# EAGLE library part 2092-1362 (library con_wago_5.0 mm)
Serie 2092, Federleiste eCOM mit abgewinkelten Lötstiften mit Griffplatte / Series 2092, eCOM pluggable PCB connector with angled solder pins with gripping plate Polzahl / Pole No.: 12 Rastermaß / Pitch: 5 mm Bemessungsspannung / Rated Voltage: 320 V Nennstrom / Nominal Current: 16 A Leiterquerschnitt / Conductor Size: 0.2 - 2.5 mm² Anschlusstechnik / Connection Technology: CAGE CLAMP® S Lötstiftlänge: / Solder Pin Length: 3.6 mm Farbe / Color: lichtgrau / light gray Stand: 01.01.2013. Die jeweils aktuellen Daten zu diesem Artikel finden Sie in unserem Produktkatalog, den Sie unter www.wago.com einsehen können. As of: 01/01/2013. Please find the newest data for this article in our product catalogue, which can be viewed under www.wago.com.
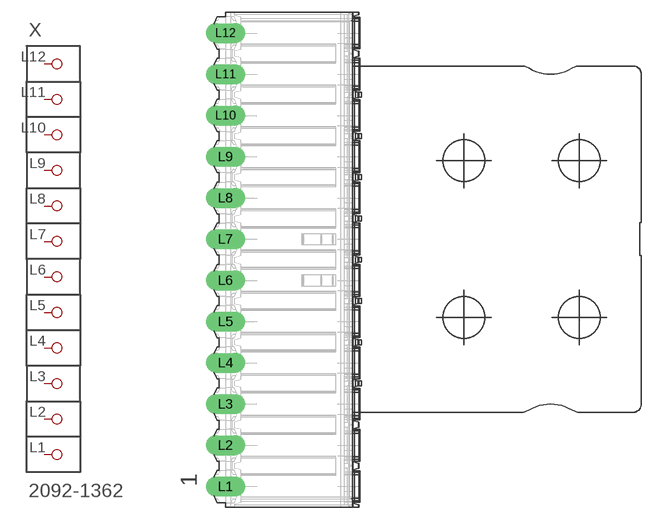
[diagram p30: symbol with the pads of P-2092-1362; footprint P-2092-1362]

Designator prefix X

## 2092-1362  [P-2092-1362]
L1  P1
L2  P2
L3  P3
L4  P4
L5  P5
L6  P6
L7  P7
L8  P8
L9  P9
L10  P10
L11  P11
L12  P12

## Footprint P-2092-1362 (pad centres in mm)
drill 1.6 pad 2 long: L1 -24.441,-27.5; L2 -24.441,-22.5; L3 -24.441,-17.5; L4 -24.441,-12.5; L5 -24.441,-7.5; L6 -24.441,-2.5; L7 -24.441,2.5; L8 -24.441,7.5; L9 -24.441,12.5; L10 -24.441,17.5; L11 -24.441,22.5; L12 -24.441,27.5